# Altium schematic symbol library Conn_Samtec_LSHM-120-02_5-L-DV-A-S-K-TR_eec.SchLib: 1 symbol
Pins are listed as number, name and electrical type; pins without a type are passive.

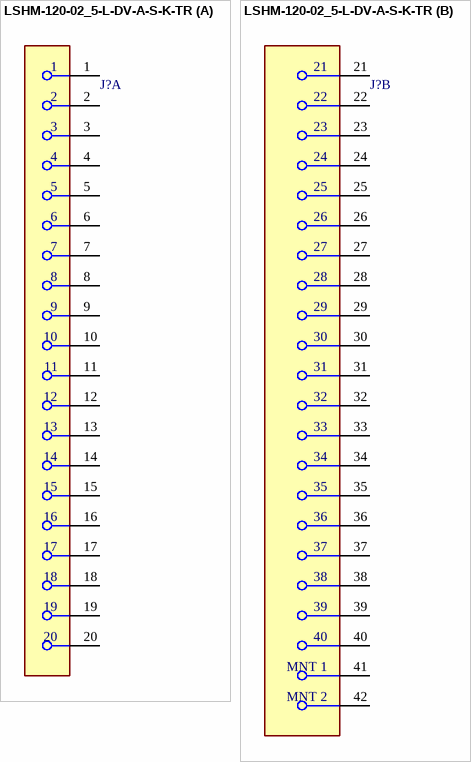
[diagram p0: symbol LSHM-120-02_5-L-DV-A-S-K-TR]

## LSHM-120-02_5-L-DV-A-S-K-TR
designator J?  (value not drawn)
part A pins: 1, 2, 3, 4, 5, 6, 7, 8, 9, 10, 11, 12, 13, 14, 15, 16, 17, 18, 19, 20
part B pins: 21, 22, 23, 24, 25, 26, 27, 28, 29, 30, 31, 32, 33, 34, 35, 36, 37, 38, 39, 40, 41 MNT 1, 42 MNT 2